# Altium schematic symbol library SchLib_ADH.SchLib: 241 symbols (part 1 of 9)
Pins are listed as number, name and electrical type; pins without a type are passive.

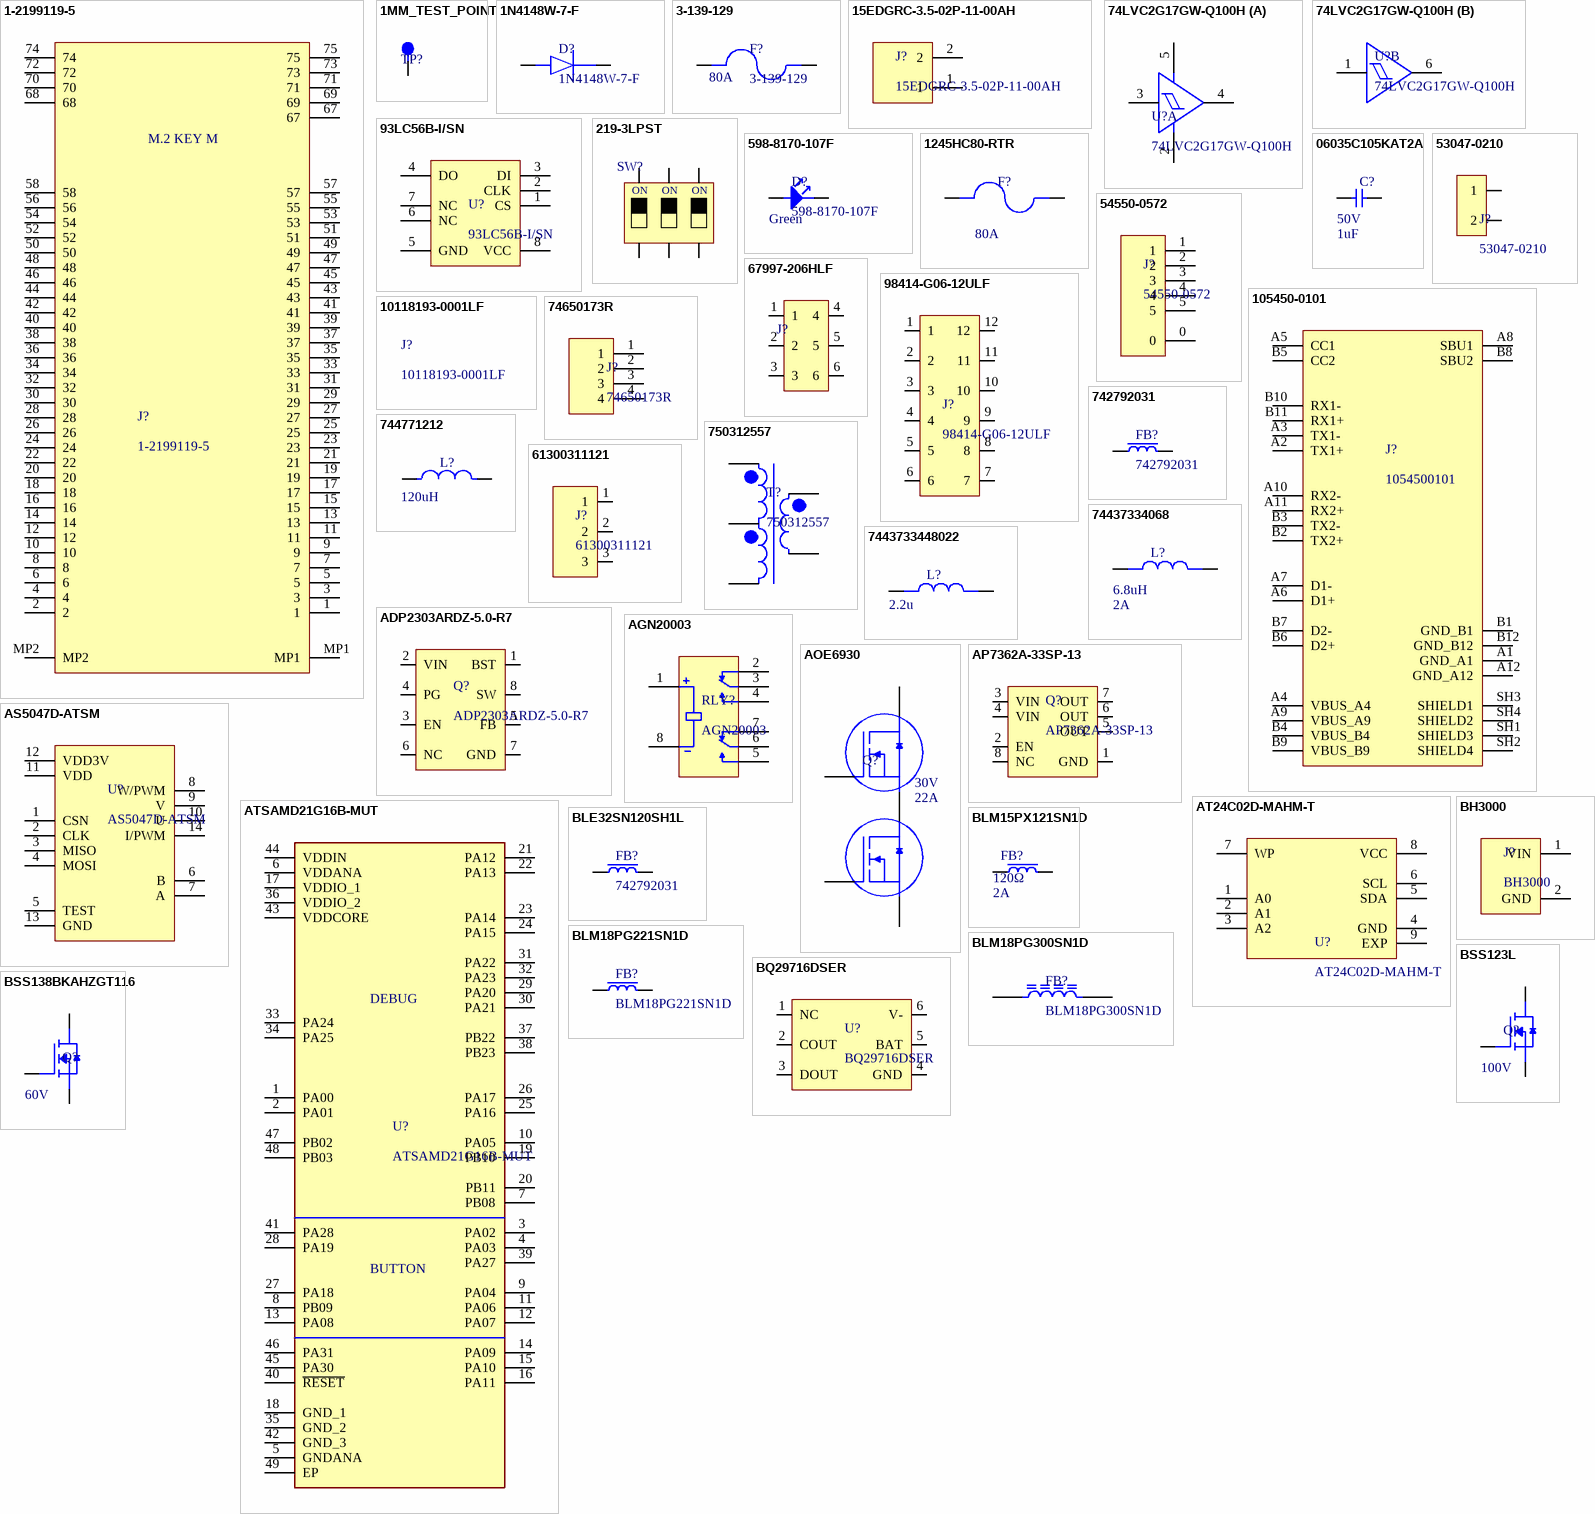
[diagram p0: symbols 1-2199119-5 to BSS138BKAHZGT116]

## 1-2199119-5
designator J?
Card Edge Connector, 67 Contact(s), 2 Row(s), Female, Right Angle, 0.019 inch Pitch, Surface Mount Terminal, Locking, Black Insulator, Socket; Manufacturer: TE Connectivity; Supplier 1: Digikey; Manufacturer Part Number: 1-2199119-5; RoHS: Yes; Category: Card Edge Connectors; Stock 1: 8014; Pricing 1: 1=1.59, 10=1.451, 25=1.4076, 50=1.3936, 100=1.2935, 250=1.272, 500=1.15768 (USD); Connector Type: CARD EDGE CONNECTOR; Reach SVHC Compliant: Yes; RoHS Compliant: Yes; ComponentLink1URL: https://datasheet.ciiva.com:443/pdfs/VipMasterIC/IC/TYEL/TYEL-S-A0008646546/TYEL-S-A0008667243-1.pdf?src-supplier=IHS+Markit; ComponentLink1Description: https://datasheet.ciiva.com:443/pdfs/VipMasterIC/IC/TYEL/TYEL-S-A0008646546/TYEL-S-A0008667243-1.pdf?src-supplier=IHS+Markit; ComponentLink2URL: https://datasheet.ciiva.com/18495/eng-cd-2199119-c-c-2199119-c-18495963.pdf?src-supplier=Digikey; ComponentLink2Description: https://datasheet.ciiva.com/18495/eng-cd-2199119-c-c-2199119-c-18495963.pdf?src-supplier=Digikey; ComponentLink3URL: https://datasheet.ciiva.com/18495/eng-cd-2199119-c-c-2199119-c-18495964.pdf?src-supplier=Digikey; ComponentLink3Description: https://datasheet.ciiva.com/18495/eng-cd-2199119-c-c-2199119-c-18495964.pdf?src-supplier=Digikey; ComponentLink4URL: https://datasheet.ciiva.com/18495/eng-cd-2199119-c-c-2199119-c-18495965.pdf?src-supplier=Digikey; ComponentLink4Description: https://datasheet.ciiva.com/18495/eng-cd-2199119-c-c-2199119-c-18495965.pdf?src-supplier=Digikey; Supplier Part Number 1: A115902CT-ND
footprint 121991195
pins: 1, 2, 3, 4, 5, 6, 7, 8, 9, 10, 11, 12, 13, 14, 15, 16, 17, 18, 19, 20, 21, 22, 23, 24, 25, 26, 27, 28, 29, 30, 31, 32, 33, 34, 35, 36, 37, 38, 39, 40, 41, 42, 43, 44, 45, 46, 47, 48, 49, 50, 51, 52, 53, 54, 55, 56, 57, 58, 67, 68, 69, 70, 71, 72, 73, 74, 75, MP1, MP2
text: M.2 KEY M

## 1MM_TEST_POINT
designator TP?  (value not drawn)
1mm test point
footprint 1MM_TETS_POINT
pins: 1

## 1N4148W-7-F
designator D?
Small Signal Diode, Single, 100 V, 300 Ma, 1.25 V, 4 Ns, 2 A Rohs Compliant: Yes; Manufacturer: Diodes; Value: 2pF; Forward Current: 150mA; Max Reverse Current: 1uA; Recovery Time: 4ns; Average Rectified Current: 300mA; Max Repetitive Reverse Voltage (Vrrm): 100V; Max Forward Surge Current (Ifsm): 2A; Power Dissipation: 400mW; Forward Voltage: 1.25V; Polarity: Standard; Voltage Rating (DC): 75V; Supplier: Digi-Key; Supplier Part Number: 1N4148W-FDICT-ND; Manufacturer Part Number: 1N4148W-7-F; RoHS: Yes; Category: Rectifier Diodes; Stock: 458934; Pricing: 1=0,17, 10=0,119, 100=0,0644, 500=0,05062, 1000=0,03515 (USD); Mounting Technology: Surface Mount; Pins: 2; Weight: 0.000353oz; Min Operating Temperature: -65°C; Max Operating Temperature: 150°C; Package Quantity: 3000; Packaging: Tape and Reel; Reverse Recovery Time: 4ns; Max Reverse Voltage (DC): 100V; Series: -; Reverse Recovery Time-Max: 4ns; Max Surge Current: 2A; Peak Non-Repetitive Surge Current: 2A; Current Rating: 150mA; Output Current: 150mA; Power Rating: 400mW; Reverse Voltage: 100V; Voltage: 100V; Length: 2.85mm; Width: 1.7mm; Height: 1.25mm; Radiation Hardening: No; Reach SVHC Compliant: No; Lead Free: Lead Free; RoHS Compliant: Yes; ComponentLink1URL: https://datasheet.ciiva.com/1179/1915529-1179304.pdf?src-supplier=Element14; ComponentLink1Description: https://datasheet.ciiva.com/1179/1915529-1179304.pdf?src-supplier=Element14; ComponentLink2URL: https://datasheet.ciiva.com/22695/1915529-22695239.pdf?src-supplier=Element14; ComponentLink2Description: https://datasheet.ciiva.com/22695/1915529-22695239.pdf?src-supplier=Element14; ComponentLink3URL: https://datasheet.ciiva.com/8300/ds30086-8300392.pdf?src-supplier=Avnet; ComponentLink3Description: https://datasheet.ciiva.com/8300/ds30086-8300392.pdf?src-supplier=Avnet; ComponentLink4URL: https://datasheet.ciiva.com/15219/getdatasheetpartid-110030-15219548.pdf?src-supplier=Verical; ComponentLink4Description: https://datasheet.ciiva.com/15219/getdatasheetpartid-110030-15219548.pdf?src-supplier=Verical; ComponentLink5URL: https://datasheet.ciiva.com/4435/ds30086-4435128.pdf?src-supplier=Mouser; ComponentLink5Description: https://datasheet.ciiva.com/4435/ds30086-4435128.pdf?src-supplier=Mouser; ComponentLink6URL: https://datasheet.ciiva.com/8303/ds30086-8303197.pdf?src-supplier=Avnet; ComponentLink6Description: https://datasheet.ciiva.com/8303/ds30086-8303197.pdf?src-supplier=Avnet; ComponentLink7URL: https://datasheet.ciiva.com/911/ds30086-911735.pdf?src-supplier=Digi-Key; ComponentLink7Description: https://datasheet.ciiva.com/911/ds30086-911735.pdf?src-supplier=Digi-Key; ComponentLink8URL: https://datasheet.ciiva.com/911/ds30086-911736.pdf?src-supplier=Digi-Key; ComponentLink8Description: https://datasheet.ciiva.com/911/ds30086-911736.pdf?src-supplier=Digi-Key; ComponentLink9URL: https://datasheet.ciiva.com/911/ds30086-911734.pdf?src-supplier=Digi-Key; ComponentLink9Description: https://datasheet.ciiva.com/911/ds30086-911734.pdf?src-supplier=Digi-Key
footprint SOD-123F (SMD)
pins: 1, 2

## 3-139-129
designator F?  Current Rating: 80A
Fuse, Fast-Acting, SMD, High-Current, 80V DC, 80A, Reel Pkg, UHP Series | Schurter 3-139-129; Supplier: Digikey; Supplier Part Number: 486-3-139-129CT-ND; Manufacturer: Schurter; Manufacturer Part Number: 3-139-129; RoHS: No; Category: Fuses; Stock: 460; Pricing: 1=1,19, 5=1,152, 10=1,078, 50=0,892, 100=0,7434, 250=0,72476 (USD)
footprint 3-139-129
pins: 1, 2

## 15EDGRC-3.5-02P-11-00AH
designator J?
TERM.BLK.3.50MM 2P 90C MALE GRAY CLOSED; Manufacturer: DEGSON; Supplier: Ozdisan; Part Number: 15EDGRC-3.5-02P-11-00AH
footprint 15EDGRC3502P1300AH
pins: 1, 2

## 74LVC2G17GW-Q100H
designator U?
Buffer, LVC/LCX/Z Series, 2-Func, 1-Input, CMOS, PDSO6; Manufacturer: Nexperia; Package Body Material: Plastic; Channels: 2; Number of Inputs: 1; Propagation Delay (tpd): 13.1ns; Max Supply Voltage: 5.5V; Min Supply Voltage: 1.65V; Nominal Supply Voltage: 3.3V; Supplier 1: Digikey; Manufacturer Part Number: 74LVC2G17GW-Q100H; RoHS: Yes; Category: Logic Gates; Stock 1: 8226; Pricing 1: 1=0.15, 10=0.095, 25=0.0828, 100=0.069, 250=0.0624, 500=0.0585 (USD); Case/Package: TSSOP; Pins: 6; Package Shape: Rectangular; Terminal Finish: Tin; Min Operating Temperature: -40°C; Max Operating Temperature: 125°C; JESD-609 Code: e3; JESD-30 Code: R-PDSO-G6; Logic Type: BUFFER; Package Style: SMALL OUTLINE, THIN PROFILE, SHRINK PITCHMeter; Surface Mount: Yes; Technology: CMOS; Terminal Form: Gull Wing; Terminal Position: DUAL; Length: 2mm; Width: 1.25mm; Height - Seated (Max): 1.1mm; Terminal Pitch: 0.65mm; Temperature Grade: AUTOMOTIVE; Reach SVHC Compliant: Yes; RoHS Compliant: Yes; ComponentLink1URL: https://datasheet.ciiva.com:443/pdfs/VipMasterIC/IC/PHGL/PHGLS27958/PHGLS27958-1.pdf?src-supplier=IHS+Markit; ComponentLink1Description: https://datasheet.ciiva.com:443/pdfs/VipMasterIC/IC/PHGL/PHGLS27958/PHGLS27958-1.pdf?src-supplier=IHS+Markit; ComponentLink2URL: https://www.mouser.com/ds/2/302/74LVC2G17_Q100-1151333.pdf?src-supplier=Mouser; ComponentLink2Description: https://www.mouser.com/ds/2/302/74LVC2G17_Q100-1151333.pdf?src-supplier=Mouser; ComponentLink3URL: https://assets.nexperia.com/documents/data-sheet/74LVC2G17_Q100.pdf?src-supplier=Digikey; ComponentLink3Description: https://assets.nexperia.com/documents/data-sheet/74LVC2G17_Q100.pdf?src-supplier=Digikey; Supplier Part Number 1: 1727-7364-1-ND
footprint SOT65P210X110-6N
part A pins: 2, 3, 4, 5
part B pins: 1, 6

## 93LC56B-I/SN
designator U?
Microwire Serial EEPROM Family, 2.5Vto 5.5V' 2 MHz, -40°Cto 125°C, SOIC-8, RoHS; Manufacturer: Microchip; Manufacturer Lifecycle Status: REL; Density: 2kb; Frequency: 2MHz; Max Supply Voltage: 5.5V; Memory Size: 250B; Min Supply Voltage: 2.5V; Nominal Supply Current: 2mA; Supplier: Farnell; Supplier Part Number: 9758259; Manufacturer Part Number: 93LC56B-I/SN; RoHS: Compliant; Category: EEPROM; Stock: 4717; Pricing: 1=0,292, 25=0,284, 100=0,277, 250=0,269 (EUR); Projected EOL Date: 2034-05-16; Ambient Temperature Range High: 125°C; Case/Package: SOIC; Contact Plating: Tin; Country of Assembly: Thailand; Country of Fabrication: United States of America; Country of Origin: Thailand; Export Control Classification Number (ECCN) Code: EAR99; Height: 1.75mm; Harmonized Tariff Schedule (HTS) Code: 8542.32.0051; Interface: Serial; Introduction Date: 2002-05-16; Lead Free: Lead Free; Length: 4.9mm; Lifecycle Status: Production; Clock Frequency: 2MHz; Max Operating Temperature: 85°C; Memory Format: EEPROM; Min Operating Temperature: -40°C; Mounting Technology: Surface Mount; Pins: 8; Operating Supply Voltage: 2.5V; Packaging: Bulk; Radiation Hardening: No; REACH SVHC: No; Schedule B: 8542320050, 8542320050|8542320050, 8542320050|8542320050|8542320050, 8542320050|8542320050|8542320050|8542320050; Width: 3.9mm; ComponentLink1URL: https://sigma.octopart.com:443/138896773/technical_drawing/Microchip-93LC56B-I-SN.pdf?src-supplier=Upverter; ComponentLink1Description: https://sigma.octopart.com:443/138896773/technical_drawing/Microchip-93LC56B-I-SN.pdf?src-supplier=Upverter; ComponentLink2URL: https://datasheet.octopart.com:443/93LC56B-I-SN-Microchip-datasheet-8329049.pdf?src-supplier=Upverter; ComponentLink2Description: https://datasheet.octopart.com:443/93LC56B-I-SN-Microchip-datasheet-8329049.pdf?src-supplier=Upverter; ComponentLink3URL: https://datasheet.octopart.com:443/93LC56B-I/SN-Microchip-datasheet-11051705.pdf?src-supplier=Augswan; ComponentLink3Description: https://datasheet.octopart.com:443/93LC56B-I/SN-Microchip-datasheet-11051705.pdf?src-supplier=Augswan; ComponentLink4URL: https://datasheet.octopart.com:443/93LC56B-I-SN-Microchip-datasheet-175858343.pdf?src-supplier=Microchip; ComponentLink4Description: https://datasheet.octopart.com:443/93LC56B-I-SN-Microchip-datasheet-175858343.pdf?src-supplier=Microchip; ComponentLink5URL: https://datasheet.octopart.com:443/93LC56B-I/SN-Microchip-datasheet-1282.pdf?src-supplier=TME; ComponentLink5Description: https://datasheet.octopart.com:443/93LC56B-I/SN-Microchip-datasheet-1282.pdf?src-supplier=TME; ComponentLink6URL: https://datasheet.octopart.com:443/93LC56B-I-SN-Microchip-datasheet-17371814.pdf?src-supplier=Microchip+SCT; ComponentLink6Description: https://datasheet.octopart.com:443/93LC56B-I-SN-Microchip-datasheet-17371814.pdf?src-supplier=Microchip+SCT; ComponentLink7URL: https://datasheet.octopart.com:443/93LC56B-I-SN-Microchip-datasheet-128589246.pdf?src-supplier=X-ON; ComponentLink7Description: https://datasheet.octopart.com:443/93LC56B-I-SN-Microchip-datasheet-128589246.pdf?src-supplier=X-ON; ComponentLink8URL: https://datasheet.octopart.com:443/93LC56B-I-SN-Microchip-datasheet-14358349.pdf?src-supplier=Farnell; ComponentLink8Description: https://datasheet.octopart.com:443/93LC56B-I-SN-Microchip-datasheet-14358349.pdf?src-supplier=Farnell; ComponentLink9URL: https://datasheet.octopart.com:443/93LC56B-I/SN.-Microchip-datasheet-656095.pdf?src-supplier=Farnell; ComponentLink9Description: https://datasheet.octopart.com:443/93LC56B-I/SN.-Microchip-datasheet-656095.pdf?src-supplier=Farnell; ComponentLink10URL: https://datasheet.octopart.com:443/93LC56B-I/SN-Microchip-datasheet-9625709.pdf?src-supplier=RS+(Formerly+Allied+Electronics); ComponentLink10Description: https://datasheet.octopart.com:443/93LC56B-I/SN-Microchip-datasheet-9625709.pdf?src-supplier=RS+(Formerly+Allied+Electronics); ComponentLink11URL: https://datasheet.octopart.com:443/93LC56B-I/SN-Microchip-datasheet-532015.pdf?src-supplier=element14; ComponentLink11Description: https://datasheet.octopart.com:443/93LC56B-I/SN-Microchip-datasheet-532015.pdf?src-supplier=element14; ComponentLink12URL: https://datasheet.octopart.com:443/93LC56B-I/SN-Microchip-datasheet-14152761.pdf?src-supplier=iiiC; ComponentLink12Description: https://datasheet.octopart.com:443/93LC56B-I/SN-Microchip-datasheet-14152761.pdf?src-supplier=iiiC; ComponentLink13URL: http://sigma.octopart.com:80/188449173/materials_sheet/Microchip-93LC56B-I-SN.pdf?src-supplier=Compliance+Statements; ComponentLink13Description: http://sigma.octopart.com:80/188449173/materials_sheet/Microchip-93LC56B-I-SN.pdf?src-supplier=Compliance+Statements; ComponentLink14URL: http://sigma.octopart.com:80/190563418/materials_sheet/Microchip-93LC56B-I-SN.pdf?src-supplier=Compliance+Statements; ComponentLink14Description: http://sigma.octopart.com:80/190563418/materials_sheet/Microchip-93LC56B-I-SN.pdf?src-supplier=Compliance+Statements; ComponentLink15URL: http://sigma.octopart.com:80/rohs_statement/Microchip-company-71.pdf?src-supplier=Compliance+Statements; ComponentLink15Description: http://sigma.octopart.com:80/rohs_statement/Microchip-company-71.pdf?src-supplier=Compliance+Statements; ComponentLink16URL: http://sigma.octopart.com:80/reach_statement/Microchip-company-70.pdf?src-supplier=Compliance+Statements; ComponentLink16Description: http://sigma.octopart.com:80/reach_statement/Microchip-company-70.pdf?src-supplier=Compliance+Statements; ComponentLink17URL: http://sigma.octopart.com:80/conflict_mineral_statement/Microchip-company-69.pdf?src-supplier=Compliance+Statements; ComponentLink17Description: http://sigma.octopart.com:80/conflict_mineral_statement/Microchip-company-69.pdf?src-supplier=Compliance+Statements; ComponentLink18URL: http://sigma.octopart.com:80/conflict_mineral_statement/Microchip-company-68.pdf?src-supplier=Compliance+Statements; ComponentLink18Description: http://sigma.octopart.com:80/conflict_mineral_statement/Microchip-company-68.pdf?src-supplier=Compliance+Statements
footprint SOIC127P599X175-8N
pins: 1 CS, 2 CLK, 3 DI, 4 DO, 5 GND, 6 NC, 7 NC, 8 VCC

## 219-3LPST
designator SW?  (value not drawn)
Switch; Manufacturer_Name: CTS; Datasheet Link: https://www.digikey.ph/en/products/detail/cts-electrocomponents/219-3LPST/223166?msockid=39f1ec84d77b6f4428b7f904d6676eed; Height: 3.85mm; Manufacturer_Part_Number: 219-3LPST; Mouser Part Number: 774-2193LPST; Mouser Price/Stock: https://www.mouser.co.uk/ProductDetail/CTS-Electronic-Components/219-3LPST?qs=qNzHFtQhdJ%252BCQoB5yfrP7Q%3D%3D; Arrow Part Number: 219-3LPST; Arrow Price/Stock: https://www.arrow.com/en/products/219-3lpst/cts
footprint 2193LPST
pins: 1, 2, 3, 4, 5, 6
text: ON

## 598-8170-107F
designator D?  Color: Green
LED Low-Power Uni-Color Green 2-Pin Chip 0805(2012Metric) T/R; Manufacturer: Dialight; Lens Color: Colorless,Clear; Lens Style: Flat,Rectangular,Diffused,Colorless,Clear,WATER CLEAR; Forward Voltage: 2.4V; Viewing Angle: 140°; Luminous Intensity: 20mcd; Wavelength: 570nm; Forward Current: 20mA; Number of Elements: 1; Power Dissipation: 60mW; Reverse Voltage: 5V; Lens Transparency: Clear; Lens Size: 1.25mm; Supplier: Digi-Key; Supplier Part Number: 350-2044-1-ND; Manufacturer Part Number: 598-8170-107F; RoHS: Yes; Category: LEDs; Stock: 668441; Pricing: 1=0,29, 10=0,23, 100=0,1033, 500=0,09332, 1000=0,07666, 2000=0,06666 (USD); Mounting Technology: Surface Mount; Case/Package: 0805; Pins: 2; Case Code (Metric): 2012; Case Code (Imperial): 0805; Min Operating Temperature: -30°C; Max Operating Temperature: 85°C; Package Quantity: 3000; Packaging: Tape and Reel; Illumination Color: Green; Test Current: 20mA; Dominant Wavelength: 570nm; Number of LEDs: 1; Series: 598; Length: 2mm; Width: 1.25mm; Height: 0.8mm; Depth: 1.25mm; Radiation Hardening: No; Reach SVHC Compliant: No; Lead Free: Lead Free; RoHS Compliant: Yes; ComponentLink1URL: https://datasheet.ciiva.com/11774/0900766b80ae2984-11774107.pdf?src-supplier=Rs; ComponentLink1Description: https://datasheet.ciiva.com/11774/0900766b80ae2984-11774107.pdf?src-supplier=Rs; ComponentLink2URL: https://datasheet.ciiva.com/15117/getdatasheetpartid-104614-15117453.pdf?src-supplier=Verical; ComponentLink2Description: https://datasheet.ciiva.com/15117/getdatasheetpartid-104614-15117453.pdf?src-supplier=Verical; ComponentLink3URL: https://datasheet.ciiva.com/1243/25662-1243902.pdf?src-supplier=Element14; ComponentLink3Description: https://datasheet.ciiva.com/1243/25662-1243902.pdf?src-supplier=Element14; ComponentLink4URL: https://datasheet.ciiva.com/1243/25662-1243901.pdf?src-supplier=Element14; ComponentLink4Description: https://datasheet.ciiva.com/1243/25662-1243901.pdf?src-supplier=Element14; ComponentLink5URL: https://datasheet.ciiva.com/22748/1484480-22748121.pdf?src-supplier=Element14; ComponentLink5Description: https://datasheet.ciiva.com/22748/1484480-22748121.pdf?src-supplier=Element14; ComponentLink6URL: https://datasheet.ciiva.com/2110/smt-selector-guide-2110052.pdf?src-supplier=Digi-Key; ComponentLink6Description: https://datasheet.ciiva.com/2110/smt-selector-guide-2110052.pdf?src-supplier=Digi-Key; ComponentLink7URL: https://datasheet.ciiva.com/2110/smt-selector-guide-2110051.pdf?src-supplier=Digi-Key; ComponentLink7Description: https://datasheet.ciiva.com/2110/smt-selector-guide-2110051.pdf?src-supplier=Digi-Key; ComponentLink8URL: https://datasheet.ciiva.com/2110/smt-selector-guide-2110053.pdf?src-supplier=Digi-Key; ComponentLink8Description: https://datasheet.ciiva.com/2110/smt-selector-guide-2110053.pdf?src-supplier=Digi-Key; ComponentLink9URL: https://datasheet.ciiva.com/15965/mdei5980805-a-w-15965496.pdf?src-supplier=Onlinecomponents.com; ComponentLink9Description: https://datasheet.ciiva.com/15965/mdei5980805-a-w-15965496.pdf?src-supplier=Onlinecomponents.com
footprint LED
pins: 1, 2

## 1245HC80-RTR
designator F?  Current Rating: 80A  (hidden comment: 1245HC80-RTR)
FUSE BRD MT 80A 125VAC 72VDC SMD; Manufacturer: Eaton Bussmann; Supplier: Digikey; Supplier Part Number: 283-1245HC80-RTRCT-ND; Manufacturer Part Number: 1245HC80-RTR; RoHS: Yes; Category: Fuses; Stock: 11041; Pricing: 1=7,45, 5=7,184, 10=6,918, 50=5,3212, 100=4,523, 250=4,25696, 500=3,72484 (USD)
footprint 1245HC80RTR
pins: 1, 2

## 06035C105KAT2A
designator C?  value 1uF  Voltage Rating: 50V  (hidden comment: 06035C105KAT2A)
Multilayer Ceramic Capacitor, 1 uF, 50 V, ± 10%, X7R, 0603 [1608 Metric]; Manufacturer: Kyocera AVX; Material: 4241ConductorMaterial; Dielectric: 1511DielectricType; Supplier: Digikey; Supplier Part Number: 478-10073-1-ND; Manufacturer Part Number: 06035C105KAT2A; RoHS: Yes; Category: Ceramic Capacitors; Stock: 151526; Pricing: 1=0,53, 10=0,353, 50=0,281, 100=0,232, 500=0,18128, 1000=0,15409 (USD); Mounting Technology: Surface Mount; Case/Package: 345Case; Min Operating Temperature: -55°C; Max Operating Temperature: 125°C; Series: -; Packaging: Cut Tape; Tolerance: 10%; Voltage Rating (DC): 50V; Height: 940um; RoHS Compliant: Yes; ComponentLink1URL: http://datasheet.octopart.com/06035C105KAT2A-KYOCERA-AVX-datasheet-156093842.pdf?src-supplier=Newark; ComponentLink1Description: http://datasheet.octopart.com/06035C105KAT2A-KYOCERA-AVX-datasheet-156093842.pdf?src-supplier=Newark; ComponentLink2URL: https://datasheet.octopart.com/06035C105KAT2A-KYOCERA-AVX-datasheet-156093841.pdf?src-supplier=Future+Electronics; ComponentLink2Description: https://datasheet.octopart.com/06035C105KAT2A-KYOCERA-AVX-datasheet-156093841.pdf?src-supplier=Future+Electronics; ComponentLink3URL: http://catalogs.avx.com/SurfaceMount.pdf?src-supplier=Digikey; ComponentLink3Description: http://catalogs.avx.com/SurfaceMount.pdf?src-supplier=Digikey; ComponentLink4URL: http://datasheets.avx.com/X7RDielectric.pdf?src-supplier=Digikey; ComponentLink4Description: http://datasheets.avx.com/X7RDielectric.pdf?src-supplier=Digikey; ComponentLink5URL: http://datasheet.octopart.com/06035C105KAT2A-KYOCERA-AVX-datasheet-156093842.pdf?src-supplier=Mouser; ComponentLink5Description: http://datasheet.octopart.com/06035C105KAT2A-KYOCERA-AVX-datasheet-156093842.pdf?src-supplier=Mouser; ComponentLink6URL: https://datasheet.octopart.com/06035C105KAT2A-KYOCERA-AVX-datasheet-156093842.pdf?src-supplier=TME; ComponentLink6Description: https://datasheet.octopart.com/06035C105KAT2A-KYOCERA-AVX-datasheet-156093842.pdf?src-supplier=TME; ComponentLink7URL: http://datasheet.octopart.com/06035C105KAT2A-KYOCERA-AVX-datasheet-156093842.pdf?src-supplier=TTI; ComponentLink7Description: http://datasheet.octopart.com/06035C105KAT2A-KYOCERA-AVX-datasheet-156093842.pdf?src-supplier=TTI
footprint CAPC1608X94N
pins: 1, 2 12

## 53047-0210
designator J?
PicoBlade 53047 2-Position Shrouded Header Male Blade 0.049" (1.25mm) Natural Through Hole; Manufacturer: Molex; Body Plating: Tin; Plating: 154ConductorMaterial; Contact Resistance: 20mR; Current Rating: 1A; Voltage Rating: 125V; Number of Poles: 2; Max Current Rating: 3A; Insulation Resistance: 100MR; Glow Wire Compliant: Non-compliant; Supplier: Digikey; Supplier Part Number: WM1731-ND; Manufacturer Part Number: 53047-0210; RoHS: Yes; Category: Headers and Wire Housings; Stock: 49233; Pricing: 1=0,23, 10=0,185, 80=0,13263, 945=0,10381, 5000=0,09227, 10000=0,08362 (USD); Mounting Technology: Through Hole; Contact Plating: Tin,Gold; Contact Material: Bronze,Brass,Tin; Housing Color: Black; Color: Natural; Housing Material: Polyamide; Min Operating Temperature: -40°C; Max Operating Temperature: 85°C; Number of Rows: 1; Voltage Rating (AC): 125V; Packaging: Tray; Package Quantity: 5000; Number of Positions: 2; Termination: Solder; Number of Contacts: 2; Working Voltage: 125V; Orientation: Vertical; Gender: Male; Number of Circuits: 2; Voltage Rating (DC): 125V; Series: PicoBlade; Length: 71.1mm; Height: 11.43mm; Lead Pitch: 1.25mm; Pitch: 1.25mm; Depth: 6.6mm; Radiation Hardening: No; Lead Free: Lead Free; Flammability Rating: UL94 V-0; RoHS Compliant: Yes; Reach SVHC Compliant: Unknown
footprint MOLEX_53047-0210
pins: 1, 2

## 54550-0572
designator J?
Cross Referenced to MOLEX - Part MOL0545500572; Supplier 1: Digikey; Manufacturer: Molex; Manufacturer Part Number: 54550-0572; RoHS: No; Category: FFC / FPC; Stock 1: 20035; Pricing 1: 1=2.1, 10=1.79, 100=1.479, 1000=1.16766 (USD); Supplier Part Number 1: 900-0545500572CT-ND
footprint 0545500572
pins: 0, 1, 2, 3, 4, 5

## 67997-206HLF
designator J?  (value not drawn)
Conn Unshrouded Header HDR 6 POS 2.54mm Solder ST Top Entry Thru-Hole BergStik® Bulk; Manufacturer: Amphenol ICC / FCI; Supplier 1: Digikey; Manufacturer Part Number: 67997-206HLF; RoHS: No; Category: Headers and Wire Housings; Stock 1: 40462; Pricing 1: 1=0.52, 10=0.451, 100=0.3721, 500=0.3236, 1000=0.26697, 5000=0.23461, 10000=0.21843 (USD); ComponentLink1URL: http://uk.rs-online.com/webdocs/1450/0900766b81450b9f.pdf?src-supplier=Rs; ComponentLink1Description: http://uk.rs-online.com/webdocs/1450/0900766b81450b9f.pdf?src-supplier=Rs; ComponentLink2URL: http://components.arrow.com/part/dataview/41913726S7403011N8314?src-supplier=Arrow+Electronics; ComponentLink2Description: http://components.arrow.com/part/dataview/41913726S7403011N8314?src-supplier=Arrow+Electronics; ComponentLink3URL: http://portal.fciconnect.com/Comergent/adirect/fci?cmd=catCustomerDrawing&productName=67997-206HLF&src-supplier=Mouser; ComponentLink3Description: http://portal.fciconnect.com/Comergent/adirect/fci?cmd=catCustomerDrawing&productName=67997-206HLF&src-supplier=Mouser; ComponentLink4URL: http://portal.fciconnect.com/Comergent/fci/drawing/67996.pdf?src-supplier=Avnet; ComponentLink4Description: http://portal.fciconnect.com/Comergent/fci/drawing/67996.pdf?src-supplier=Avnet; ComponentLink5URL: https://datasheet.octopart.com/67997-206HLF-Amphenol-Communications-Solutions-datasheet-10288749.pdf?src-supplier=Newark; ComponentLink5Description: https://datasheet.octopart.com/67997-206HLF-Amphenol-Communications-Solutions-datasheet-10288749.pdf?src-supplier=Newark; ComponentLink6URL: https://datasheet.octopart.com/67997-206HLF-Areva-datasheet-15888151.pdf?src-supplier=Element14; ComponentLink6Description: https://datasheet.octopart.com/67997-206HLF-Areva-datasheet-15888151.pdf?src-supplier=Element14; ComponentLink7URL: https://www.alliedelec.com/m/d/513ec3cc6ba1d1ea2d72c003449a9fb2.pdf?src-supplier=Allied+Electronics; ComponentLink7Description: https://www.alliedelec.com/m/d/513ec3cc6ba1d1ea2d72c003449a9fb2.pdf?src-supplier=Allied+Electronics; ComponentLink8URL: https://cdn.amphenol-icc.com/media/wysiwyg/files/drawing/67996.pdf?src-supplier=Digikey; ComponentLink8Description: https://cdn.amphenol-icc.com/media/wysiwyg/files/drawing/67996.pdf?src-supplier=Digikey; ComponentLink9URL: https://datasheet.octopart.com/67997-206HLF-Amphenol-Communications-Solutions-datasheet-36854132.pdf?src-supplier=Electro+Sonic; ComponentLink9Description: https://datasheet.octopart.com/67997-206HLF-Amphenol-Communications-Solutions-datasheet-36854132.pdf?src-supplier=Electro+Sonic; Supplier Part Number 1: 609-3234-ND
footprint FRAMATOME_67997-206HLF
pins: 1, 2, 3, 4, 5, 6

## 98414-G06-12ULF
designator J?
Conn Shrouded Header (4 Sides) HDR 12 POS 2mm Solder ST Top Entry Thru-Hole Minitek® Tube; Manufacturer: Amphenol ICC / FCI; Supplier: Digi-Key; Supplier Part Number: 609-3106-ND; Manufacturer Part Number: 98414-G06-12ULF; RoHS: No; Category: Connectors; Stock: 2677; Pricing: 1=1,69, 10=1,468, 100=1,3118, 500=1,0932, 1000=0,93703, 5000=0,83083, 10000=0,81209 (USD); ComponentLink1URL: https://www.distrelec.biz/Web/Downloads/at/_e/dmMinitek-98414-G06_dat_e.pdf?mime=application%2Fpdf&src-supplier=Distrelec; ComponentLink1Description: https://www.distrelec.biz/Web/Downloads/at/_e/dmMinitek-98414-G06_dat_e.pdf?mime=application%2Fpdf&src-supplier=Distrelec; ComponentLink2URL: http://portal.fciconnect.com/Comergent/adirect/fci?cmd=catCustomerDrawing&productName=98414-G06-12ULF&src-supplier=Mouser; ComponentLink2Description: http://portal.fciconnect.com/Comergent/adirect/fci?cmd=catCustomerDrawing&productName=98414-G06-12ULF&src-supplier=Mouser; ComponentLink3URL: http://components.arrow.com/part/dataview/41998130S9159840N8314?src-supplier=Arrow+Electronics; ComponentLink3Description: http://components.arrow.com/part/dataview/41998130S9159840N8314?src-supplier=Arrow+Electronics; ComponentLink4URL: http://portal.fciconnect.com/Comergent/fci/drawing/98414.pdf?src-supplier=Avnet; ComponentLink4Description: http://portal.fciconnect.com/Comergent/fci/drawing/98414.pdf?src-supplier=Avnet; ComponentLink5URL: https://cdn.amphenol-icc.com/media/wysiwyg/files/drawing/98414.pdf?src-supplier=Digi-Key; ComponentLink5Description: https://cdn.amphenol-icc.com/media/wysiwyg/files/drawing/98414.pdf?src-supplier=Digi-Key
footprint AMPHENOL_98414-G06-12ULF
pins: 1, 2, 3, 4, 5, 6, 7, 8, 9, 10, 11, 12

## 105450-0101
designator J?, comment 1054500101
USB Connector, 24 Contact(s), Female, Right Angle, Surface Mount Terminal, Receptacle; Manufacturer: Molex; Manufacturer Part Number: 105450-0101; Plating: 157ConductorMaterial; Number of Contacts: 24; Number of Ports: 1; USB Standard: USB 3.1; Mating Cycles: 10000; Shielding: Shielded; Number of Circuits: 24NUMBER; Voltage Rating: 30V; Pitch: 0.5mm; Supplier: Digi-Key; Supplier Part Number: WM12856CT-ND; RoHS: Yes; Category: USB Connectors; Stock: 54929; Pricing: 1=2,68, 10=2,283, 100=1,886 (USD); Mounting Technology: Surface Mount,Horizontal,Through Hole; Case/Package: 0101; Pins: 24; Contact Material: Copper Alloy; Contact Plating: Gold; Housing Material: Thermoplastic; Insulation Color: Black; Min Operating Temperature: -30°C; Max Operating Temperature: 85°C; Packaging: Tape and Reel; Connector Type: USB; Gender: Receptacle; Orientation: Right Angle; Termination: Solder; Features: Shielded; Series: -; Number of Rows: 2NUMBER; Length: 8.94mm; Height: 3.44mm; Flammability Rating: UL94 V-0; RoHS Compliant: Yes; Reach SVHC Compliant: Unknown; ComponentLink1URL: http://www.farnell.com/datasheets/2801634.pdf?src-supplier=Farnell; ComponentLink1Description: http://www.farnell.com/datasheets/2801634.pdf?src-supplier=Farnell; ComponentLink2URL: http://www.farnell.com/datasheets/2801634.pdf?src-supplier=Newark; ComponentLink2Description: http://www.farnell.com/datasheets/2801634.pdf?src-supplier=Newark; ComponentLink3URL: http://www.literature.molex.com/SQLImages/kelmscott/Molex/PDF_Images/987651-4081.PDF?src-supplier=Avnet; ComponentLink3Description: http://www.literature.molex.com/SQLImages/kelmscott/Molex/PDF_Images/987651-4081.PDF?src-supplier=Avnet; ComponentLink4URL: http://www.farnell.com/datasheets/2015275.pdf?src-supplier=Element14; ComponentLink4Description: http://www.farnell.com/datasheets/2015275.pdf?src-supplier=Element14; ComponentLink5URL: http://www.farnell.com/datasheets/2801634.pdf?src-supplier=Element14; ComponentLink5Description: http://www.farnell.com/datasheets/2801634.pdf?src-supplier=Element14; ComponentLink6URL: http://www.farnell.com/datasheets/2672741.pdf?src-supplier=Newark; ComponentLink6Description: http://www.farnell.com/datasheets/2672741.pdf?src-supplier=Newark; ComponentLink7URL: https://www.molex.com/pdm_docs/sd/1054500101_sd.pdf?src-supplier=Digi-Key; ComponentLink7Description: https://www.molex.com/pdm_docs/sd/1054500101_sd.pdf?src-supplier=Digi-Key; ComponentLink8URL: https://www.molex.com/pdm_docs/ps/PS-105448-001.pdf?src-supplier=Digi-Key; ComponentLink8Description: https://www.molex.com/pdm_docs/ps/PS-105448-001.pdf?src-supplier=Digi-Key; ComponentLink9URL: https://datasheet.octopart.com/1054500101-Molex-datasheet-168215564.pdf?src-supplier=TME; ComponentLink9Description: https://datasheet.octopart.com/1054500101-Molex-datasheet-168215564.pdf?src-supplier=TME
footprint MOLEX_1054500101
pins: A1 GND_A1, A2 TX1+, A3 TX1-, A4 VBUS_A4, A5 CC1, A6 D1+, A7 D1-, A8 SBU1, A9 VBUS_A9, A10 RX2-, A11 RX2+, A12 GND_A12, B1 GND_B1, B2 TX2+, B3 TX2-, B4 VBUS_B4, B5 CC2, B6 D2+, B7 D2-, B8 SBU2, B9 VBUS_B9, B10 RX1-, B11 RX1+, B12 GND_B12, SH1 SHIELD3, SH2 SHIELD4, SH3 SHIELD1, SH4 SHIELD2

## 10118193-0001LF
designator J?
FCI Right Angle Surface Mount Mount Female USB Connector; 100 V ac; 1.8A; Manufacturer: Amphenol ICC / FCI; Connector Type: USB,Receptacle; Number of Contacts: 5; Insulation Resistance: 1GR; Number of Ports: 1; Max Voltage Rating (AC): 100V; Pitch: 0.65mm; Supplier: Digi-Key; Supplier Part Number: 609-4616-1-ND; Manufacturer Part Number: 10118193-0001LF; RoHS: No; Category: Uncategorized; Stock: 246195; Pricing: 1=0,46, 10=0,404, 25=0,3696, 50=0,3478, 100=0,3334, 250=0,30436, 500=0,28988 (USD); Mounting Technology: Surface Mount,Horizontal; Pins: 5; Color: Black; Contact Material: Copper Alloy; Contact Plating: Gold; Housing Material: Polymer; Min Operating Temperature: -55°C; Max Operating Temperature: 85°C; Gender: Female; Orientation: Right Angle; Termination: Solder; Features: Shielded; Series: -; Packaging: Tape and Reel; Current Rating: 1.8A; Package Quantity: 1200; Voltage Rating: 100V; Length: 7.86mm; Depth: 5.67mm; Radiation Hardening: No; Flammability Rating: UL94 V-0; ComponentLink1URL: http://uk.rs-online.com/webdocs/1450/0900766b814507f1.pdf?src-supplier=Rs; ComponentLink1Description: http://uk.rs-online.com/webdocs/1450/0900766b814507f1.pdf?src-supplier=Rs; ComponentLink2URL: https://cdn.amphenol-icc.com/media/wysiwyg/files/documentation/datasheet/inputoutput/io_usb_micro.pdf?src-supplier=Arrow+Electronics; ComponentLink2Description: https://cdn.amphenol-icc.com/media/wysiwyg/files/documentation/datasheet/inputoutput/io_usb_micro.pdf?src-supplier=Arrow+Electronics; ComponentLink3URL: https://cdn.amphenol-icc.com/media/wysiwyg/files/documentation/datasheet/inputoutput/io_usb_micro.pdf?src-supplier=Onlinecomponents.com; ComponentLink3Description: https://cdn.amphenol-icc.com/media/wysiwyg/files/documentation/datasheet/inputoutput/io_usb_micro.pdf?src-supplier=Onlinecomponents.com; ComponentLink4URL: https://cdn.amphenol-icc.com/media/wysiwyg/files/documentation/datasheet/inputoutput/io_usb_micro.pdf?src-supplier=Verical; ComponentLink4Description: https://cdn.amphenol-icc.com/media/wysiwyg/files/documentation/datasheet/inputoutput/io_usb_micro.pdf?src-supplier=Verical; ComponentLink5URL: https://cdn.amphenol-icc.com/media/wysiwyg/files/documentation/datasheet/inputoutput/io_usb_micro.pdf?src-supplier=Allied+Electronics; ComponentLink5Description: https://cdn.amphenol-icc.com/media/wysiwyg/files/documentation/datasheet/inputoutput/io_usb_micro.pdf?src-supplier=Allied+Electronics; ComponentLink6URL: https://datasheet.octopart.com/10118193-0001LF-Amphenol-Communications-Solutions-datasheet-96019471.pdf?src-supplier=Element14; ComponentLink6Description: https://datasheet.octopart.com/10118193-0001LF-Amphenol-Communications-Solutions-datasheet-96019471.pdf?src-supplier=Element14; ComponentLink7URL: https://cdn.amphenol-icc.com/media/wysiwyg/files/documentation/datasheet/inputoutput/io_usb_micro.pdf?src-supplier=Avnet; ComponentLink7Description: https://cdn.amphenol-icc.com/media/wysiwyg/files/documentation/datasheet/inputoutput/io_usb_micro.pdf?src-supplier=Avnet; ComponentLink8URL: https://cdn.amphenol-icc.com/media/wysiwyg/files/documentation/datasheet/inputoutput/io_usb_micro.pdf?src-supplier=Rs; ComponentLink8Description: https://cdn.amphenol-icc.com/media/wysiwyg/files/documentation/datasheet/inputoutput/io_usb_micro.pdf?src-supplier=Rs; ComponentLink9URL: https://cdn.amphenol-icc.com/media/wysiwyg/files/documentation/datasheet/inputoutput/io_usb_micro.pdf?src-supplier=Mouser; ComponentLink9Description: https://cdn.amphenol-icc.com/media/wysiwyg/files/documentation/datasheet/inputoutput/io_usb_micro.pdf?src-supplier=Mouser; ComponentLink10URL: http://www.amphenol-icc.com/media/wysiwyg/files/drawing/10118193.pdf?src-supplier=Digi-Key; ComponentLink10Description: http://www.amphenol-icc.com/media/wysiwyg/files/drawing/10118193.pdf?src-supplier=Digi-Key; ComponentLink11URL: https://cdn.amphenol-icc.com/media/wysiwyg/files/documentation/datasheet/inputoutput/io_usb_micro.pdf?src-supplier=Digi-Key; ComponentLink11Description: https://cdn.amphenol-icc.com/media/wysiwyg/files/documentation/datasheet/inputoutput/io_usb_micro.pdf?src-supplier=Digi-Key; ComponentLink12URL: https://cdn.amphenol-icc.com/media/wysiwyg/files/documentation/datasheet/inputoutput/io_usb_micro.pdf?src-supplier=TTI; ComponentLink12Description: https://cdn.amphenol-icc.com/media/wysiwyg/files/documentation/datasheet/inputoutput/io_usb_micro.pdf?src-supplier=TTI; ComponentLink13URL: https://datasheet.octopart.com/10118193-0001LF-Amphenol-Communications-Solutions-datasheet-11792339.pdf?src-supplier=Electro+Sonic; ComponentLink13Description: https://datasheet.octopart.com/10118193-0001LF-Amphenol-Communications-Solutions-datasheet-11792339.pdf?src-supplier=Electro+Sonic; ComponentLink14URL: https://datasheet.octopart.com/10118193-0001LF-Amphenol-Communications-Solutions-datasheet-55953155.pdf?src-supplier=TME; ComponentLink14Description: https://datasheet.octopart.com/10118193-0001LF-Amphenol-Communications-Solutions-datasheet-55953155.pdf?src-supplier=TME; ComponentLink15URL: https://cdn.amphenol-icc.com/media/wysiwyg/files/documentation/datasheet/inputoutput/io_usb_micro.pdf?src-supplier=Heilind+Electronics; ComponentLink15Description: https://cdn.amphenol-icc.com/media/wysiwyg/files/documentation/datasheet/inputoutput/io_usb_micro.pdf?src-supplier=Heilind+Electronics

## 74650173R
designator J?
TERMINAL, BUSH THR , PCB, 6.6mm, M3, TH; Tab Size - Metric: -; Imperial: -; Terminal Material: Brass; Mounting Hole...; Manufacturer: Wurth Electronics; Current Rating: 50A; Supplier: Digikey; Supplier Part Number: 732-74650173RCT-ND; Manufacturer Part Number: 74650173R; RoHS: Yes; Category: Terminals; Stock: 3440; Pricing: 1=4,51, 10=3,764, 50=3,305, 100=3,007 (USD); Mounting Technology: Through Hole; Pins: 4; Contact Plating: Tin; Contact Material: Brass; Termination: Power; Series: REDCUBE WP-THRBU; Thread Size: M3; RoHS Compliant: Yes; ComponentLink1URL: http://katalog.we-online.de/em/datasheet/74650173R.pdf?src-supplier=Digikey; ComponentLink1Description: http://katalog.we-online.de/em/datasheet/74650173R.pdf?src-supplier=Digikey; ComponentLink2URL: https://katalog.we-online.de/em/datasheet/74650173R.pdf?src-supplier=Digikey; ComponentLink2Description: https://katalog.we-online.de/em/datasheet/74650173R.pdf?src-supplier=Digikey
footprint 74650073 (REDCUBE THR with internal thread, M3x2.5mm, through)
pins: 1, 2, 3, 4

## 742792031
designator FB?
WE-CBF Ferrite Bead 0805 300Ohm 3000mA; Manufacturer: Wurth Electronics; Value: 0.36H; Tolerance: 25%; Current Rating: 3A; Impedance: 300R; Number of Lines: 1; DC Resistance (DCR): 50mR; Test Frequency: 200MHz; Supplier: Digi-Key; Supplier Part Number: 732-4638-1-ND; Manufacturer Part Number: 742792031; RoHS: Yes; Category: Ferrite Beads and Chips; Stock: 305302; Pricing: 1=0,23, 50=0,224, 100=0,206, 500=0,197, 1000=0,187, 2000=0,179 (USD); Mounting Technology: Surface Mount; Case/Package: SMD/SMT; Core Material: Ferrite; Case Code (Metric): 2012; Case Code (Imperial): 0805; Weight: 0.000194oz; Material: Ferrite; Min Operating Temperature: -55°C; Max Operating Temperature: 125°C; Package Quantity: 1; Packaging: Tape and Reel; Max Current Rating: 3A; Max DC Current: 3A; Termination: SMD/SMT; Series: WE-CBF; Length: 2mm; Width: 1.2mm; Height: 0.9mm; Depth: 1.2mm; RoHS Compliant: Yes; Reach SVHC Compliant: Unknown; ComponentLink1URL: https://datasheet.ciiva.com/1126/1468425-1126563.pdf?src-supplier=Element14; ComponentLink1Description: https://datasheet.ciiva.com/1126/1468425-1126563.pdf?src-supplier=Element14; ComponentLink2URL: https://datasheet.ciiva.com/11799/0900766b80d2dd7c-11799762.pdf?src-supplier=Rs; ComponentLink2Description: https://datasheet.ciiva.com/11799/0900766b80d2dd7c-11799762.pdf?src-supplier=Rs; ComponentLink3URL: https://datasheet.ciiva.com/29364/742792031-29364444.pdf?src-supplier=Digi-Key; ComponentLink3Description: https://datasheet.ciiva.com/29364/742792031-29364444.pdf?src-supplier=Digi-Key; ComponentLink4URL: https://datasheet.ciiva.com/14122/742792031-eng-tds-14122797.pdf?src-supplier=Distrelec; ComponentLink4Description: https://datasheet.ciiva.com/14122/742792031-eng-tds-14122797.pdf?src-supplier=Distrelec; ComponentLink5URL: https://datasheet.ciiva.com/48698/001086958-da-01-ml-we-cbf-smd-ferrit-742792031-de-en-48698519.pdf?src-supplier=Conrad; ComponentLink5Description: https://datasheet.ciiva.com/48698/001086958-da-01-ml-we-cbf-smd-ferrit-742792031-de-en-48698519.pdf?src-supplier=Conrad
footprint BEADC2012X105N
pins: 1, 2

## 744771212
designator L?  Inductance-Nom (L): 120uH  (hidden comment: 744771212)
General Purpose Inductor, 120uH, 20%, 1 Element, Ferrite-Core, SMD, 4747; Manufacturer: Wurth Electronics; DC Resistance (DCR): 170mR; Max Current Rating: 1.3A; Self Resonant Frequency: 4.8MHz; Inductor Application: RF INDUCTOR; Channels: 1; Shape/Size Description: RECTANGULAR PACKAGE; Shielding: Unshielded; Test Frequency: 1kHz; Supplier 1: Digikey; Manufacturer Part Number: 744771212; RoHS: Yes; Category: Fixed Inductors; Stock 1: 1717; Pricing 1: 1=2.26, 10=2.172, 50=1.961, 100=1.759, 250=1.61 (USD); Pins: 2; Core Material: Ferrite; Terminal Finish: Copper; Min Operating Temperature: -40°C; Max Operating Temperature: 85°C; Tolerance: 20%; JESD-609 Code: e1; Inductor Type: GENERAL PURPOSE INDUCTOR; Manufacturer Series: 744771212; Surface Mount: Yes; Terminal Placement: Dual Ended; Termination: One Surface; Reach SVHC Compliant: Yes; RoHS Compliant: Yes; ComponentLink1URL: https://datasheet.ciiva.com:443/pdfs/VipMasterIC/IC/MIDC/MIDC-S-A0007237670/MIDC-S-A0007087713-1.pdf?src-supplier=IHS+Markit; ComponentLink1Description: https://datasheet.ciiva.com:443/pdfs/VipMasterIC/IC/MIDC/MIDC-S-A0007237670/MIDC-S-A0007087713-1.pdf?src-supplier=IHS+Markit; ComponentLink2URL: https://datasheet.ciiva.com/6697/744771212-6697383.pdf?src-supplier=Digikey; ComponentLink2Description: https://datasheet.ciiva.com/6697/744771212-6697383.pdf?src-supplier=Digikey; ComponentLink3URL: https://datasheet.ciiva.com/13320/744771212-44144-13320794.pdf?src-supplier=Mouser; ComponentLink3Description: https://datasheet.ciiva.com/13320/744771212-44144-13320794.pdf?src-supplier=Mouser; ComponentLink4URL: https://datasheet.ciiva.com/23790/1645867-23790782.pdf?src-supplier=Newark; ComponentLink4Description: https://datasheet.ciiva.com/23790/1645867-23790782.pdf?src-supplier=Newark; ComponentLink5URL: https://datasheet.ciiva.com/30489/0900766b81281bab-30489822.pdf?src-supplier=Rs; ComponentLink5Description: https://datasheet.ciiva.com/30489/0900766b81281bab-30489822.pdf?src-supplier=Rs; ComponentLink6URL: https://datasheet.ciiva.com/7765/1736225-7765174.pdf?src-supplier=Element14; ComponentLink6Description: https://datasheet.ciiva.com/7765/1736225-7765174.pdf?src-supplier=Element14; ComponentLink7URL: https://datasheet.ciiva.com/26307/744771212-eng-tds-26307974.pdf?src-supplier=Distrelec; ComponentLink7Description: https://datasheet.ciiva.com/26307/744771212-eng-tds-26307974.pdf?src-supplier=Distrelec; Supplier Part Number 1: 732-4022-1-ND
footprint 744771212
pins: 1, 2

## 750312557
designator T?
Flyback Transformer We-fb LT8300; Manufacturer: Wurth Electronics Midcom; Current Rating: 450mA; Power Rating: 3W; Frequency: 70kHz; Value: 300uH; Supplier: Digikey; Supplier Part Number: 1297-1019-1-ND; Manufacturer Part Number: 750312557; RoHS: Yes; Category: Uncategorized; Stock: 150; Pricing: 1=4,17, 10=4,118, 50=3,86, 100=3,474 (USD); Mounting Technology: Surface Mount; Min Operating Temperature: -40°C; Max Operating Temperature: 125°C; Packaging: Tape and Reel; Package Quantity: 1; Termination: SMD/SMT; Max DC Current: 450mA; Series: WE-FB; Length: 13.36mm; Width: 10.16mm; Height: 12.7mm; Height - Seated (Max): 8.64mm; RoHS Compliant: Yes; ComponentLink1URL: https://datasheet.ciiva.com/24068/750312557-253798-24068018.pdf?src-supplier=Mouser; ComponentLink1Description: https://datasheet.ciiva.com/24068/750312557-253798-24068018.pdf?src-supplier=Mouser; ComponentLink2URL: https://datasheet.ciiva.com/18573/750312557-18573653.pdf?src-supplier=Digikey; ComponentLink2Description: https://datasheet.ciiva.com/18573/750312557-18573653.pdf?src-supplier=Digikey; ComponentLink3URL: https://datasheet.ciiva.com/18573/750312557-18573692.pdf?src-supplier=Digikey; ComponentLink3Description: https://datasheet.ciiva.com/18573/750312557-18573692.pdf?src-supplier=Digikey; ComponentLink4URL: https://datasheet.ciiva.com/18573/750312557-18573693.pdf?src-supplier=Digikey; ComponentLink4Description: https://datasheet.ciiva.com/18573/750312557-18573693.pdf?src-supplier=Digikey
footprint EP7_SMT_6PIN_(0353)
pins: 1, 2, 3, 4, 6

## 61300311121
designator J?
THT Vertical Pin Header WR-PHD, Pitch 2.54 mm, Single Row, 3 pins; Manufacturer: Wurth Electronics; Number of Positions: 3; Gender: Male; Contact Resistance: 20mR; Current Rating: 3A; Operating Supply Voltage: 250V; Pitch: 0.1inch; Supplier: Digi-Key; Supplier Part Number: 732-5316-ND; Manufacturer Part Number: 61300311121; RoHS: Yes; Category: Connectors; Stock: 182787; Pricing: 1=0,13, 10=0,113, 25=0,094, 50=0,079, 100=0,071, 1000=0,06875 (USD); Mounting Technology: Through Hole; Contact Plating: Gold; Contact Material: Copper; Color: Black; Min Operating Temperature: -40°C; Max Operating Temperature: 105°C; Number of Rows: 1; Packaging: Bulk; Termination: Solder; Number of Contacts: 3; Series: WR-PHD; Contact Type: Male Pin; Orientation: 5495OrientationType; Voltage Rating: 250V; Height: 8.94mm; Contact Mating Length: 0.236inch; Lead Free: Lead Free; RoHS Compliant: Yes; Reach SVHC Compliant: Unknown; ComponentLink1URL: http://www.farnell.com/cad/1737268.pdf?src-supplier=Element14; ComponentLink1Description: http://www.farnell.com/cad/1737268.pdf?src-supplier=Element14; ComponentLink2URL: https://datasheet.octopart.com/61300311121-W%C3%BCrth-Elektronik-datasheet-21154836.pdf?src-supplier=Element14; ComponentLink2Description: https://datasheet.octopart.com/61300311121-W%C3%BCrth-Elektronik-datasheet-21154836.pdf?src-supplier=Element14; ComponentLink3URL: https://katalog.we-online.de/em/datasheet/6130xx11121.pdf?src-supplier=Digi-Key; ComponentLink3Description: https://katalog.we-online.de/em/datasheet/6130xx11121.pdf?src-supplier=Digi-Key
footprint WURTH_61300311121
pins: 1, 2, 3

## 74437334068
designator L?  value 6.8uH  Current Rating: 2A  (hidden comment: 74437334068)
Fixed Ind 6.8UH 2A 150 Mohm SMD; Manufacturer: Wurth Electronics; Core Material: Ferrite; Saturation Current: 4.6A; Shielding: Shielded; DC Resistance (DCR): 150mR; Self Resonant Frequency: 20.5MHz; Test Frequency: 100kHz; Tolerance: 20%; Supplier: Digi-Key; Supplier Part Number: 732-6156-1-ND; Manufacturer Part Number: 74437334068; RoHS: Yes; Category: Fixed Inductors; Stock: 3097; Pricing: 1=2,55, 50=2,36, 100=2,145, 250=1,951, 500=1,773 (USD); Mounting Technology: Surface Mount; Case/Package: 5020; Pins: 2; Min Operating Temperature: -40°C; Max Operating Temperature: 125°C; Packaging: Tape and Reel; RMS Current (Irms): 2A; Inductance Tolerance: 20%; Termination: SMD/SMT; Max DC Current: 2A; Package Quantity: 3000; Series: WE-LHMI; Length: 0.205inch; Width: 5.2mm; Height: 1.8mm; Height - Seated (Max): 0.078inch; RoHS Compliant: Yes; Reach SVHC Compliant: Unknown; ComponentLink1URL: http://www.farnell.com/datasheets/1880901.pdf?src-supplier=Farnell; ComponentLink1Description: http://www.farnell.com/datasheets/1880901.pdf?src-supplier=Farnell; ComponentLink2URL: http://www.mouser.com/ds/2/445/74437334068-516434.pdf?src-supplier=Mouser; ComponentLink2Description: http://www.mouser.com/ds/2/445/74437334068-516434.pdf?src-supplier=Mouser; ComponentLink3URL: http://www.farnell.com/datasheets/1880901.pdf?src-supplier=Element14; ComponentLink3Description: http://www.farnell.com/datasheets/1880901.pdf?src-supplier=Element14; ComponentLink4URL: https://datasheet.octopart.com/74437334068-W%C3%BCrth-Elektronik-datasheet-37143636.pdf?src-supplier=Newark; ComponentLink4Description: https://datasheet.octopart.com/74437334068-W%C3%BCrth-Elektronik-datasheet-37143636.pdf?src-supplier=Newark; ComponentLink5URL: https://katalog.we-online.de/pbs/datasheet/74437334068.pdf?src-supplier=Digi-Key; ComponentLink5Description: https://katalog.we-online.de/pbs/datasheet/74437334068.pdf?src-supplier=Digi-Key
footprint INDPM5752X200N
pins: 1, 2

## 7443733448022
designator L?  value 2.2u  (hidden comment: 7443733448022)
Power Inductor, 2.2UH, Shielded, 5.5A Rohs Compliant: Yes; Manufacturer: Wurth Elektronik; Supplier: Farnell; Supplier Part Number: 4413357; Manufacturer Part Number: 7443733448022; Category: Fixed Inductors; Stock: 485; Pricing: 5=2,26, 50=2,06, 250=1,87, 500=1,72, 1000=1,57, 2000=1,55 (EUR)
footprint WE-LHMI_5020
pins: 1, 2

## ADP2303ARDZ-5.0-R7
designator Q?
Conv DC-DC 3V to 20V Step Down Single-Out 5V 3A 8-Pin SOIC N EP T/R; Manufacturer: Analog Devices; Supplier: Digi-Key; Supplier Part Number: 505-ADP2303ARDZ-5.0-R7CT-ND; Manufacturer Part Number: ADP2303ARDZ-5.0-R7; RoHS: Yes; Category: Voltage Regulators - Switching; Stock: 1453; Pricing: 1=4,1, 10=3,678, 25=3,4768, 100=3,0133, 250=2,8588, 500=2,5652 (USD); ComponentLink1URL: https://datasheet.ciiva.com/25626/0900766b810b59f9-25626508.pdf?src-supplier=Rs; ComponentLink1Description: https://datasheet.ciiva.com/25626/0900766b810b59f9-25626508.pdf?src-supplier=Rs; ComponentLink2URL: https://datasheet.ciiva.com/28436/1624274-28436554.pdf?src-supplier=Element14; ComponentLink2Description: https://datasheet.ciiva.com/28436/1624274-28436554.pdf?src-supplier=Element14; ComponentLink3URL: https://datasheet.ciiva.com/7994/1624274-7994911.pdf?src-supplier=Element14; ComponentLink3Description: https://datasheet.ciiva.com/7994/1624274-7994911.pdf?src-supplier=Element14; ComponentLink4URL: https://datasheet.ciiva.com/2024/adp2302-2303-2024382.pdf?src-supplier=Digi-Key; ComponentLink4Description: https://datasheet.ciiva.com/2024/adp2302-2303-2024382.pdf?src-supplier=Digi-Key; ComponentLink5URL: https://datasheet.ciiva.com/2024/adp2302-2303-2024383.pdf?src-supplier=Digi-Key; ComponentLink5Description: https://datasheet.ciiva.com/2024/adp2302-2303-2024383.pdf?src-supplier=Digi-Key; ComponentLink6URL: https://datasheet.ciiva.com/2024/adp2302-2303-2024384.pdf?src-supplier=Digi-Key; ComponentLink6Description: https://datasheet.ciiva.com/2024/adp2302-2303-2024384.pdf?src-supplier=Digi-Key; ComponentLink7URL: https://datasheet.ciiva.com/48696/001251161-da-01-en-ic-reg-buc-adp2303ardz-5-0-r7-soic-8-adi-48696838.pdf?src-supplier=Conrad; ComponentLink7Description: https://datasheet.ciiva.com/48696/001251161-da-01-en-ic-reg-buc-adp2303ardz-5-0-r7-soic-8-adi-48696838.pdf?src-supplier=Conrad
footprint SOIC127P600X175_HS-9N (SOIC, 8-Leads, Body 4,90x3,90mm, Pitch 1,27mm, Thermal Pad 2,29x2,29mm, IPC Medium Density)
pins: 1 BST, 2 VIN, 3 EN, 4 PG, 5 FB, 6 NC, 7 GND, 8 SW

## AGN20003
designator RLY?
Electromechanical Relay DPDT 1A 3VDC 64.2Ohm Through Hole; Manufacturer: Panasonic; Supplier: Digi-Key; Supplier Part Number: 255-2085-5-ND; Manufacturer Part Number: AGN20003; RoHS: Yes; Category: Signal Relays; Stock: 2045; Pricing: 1=3,85, 10=3,613, 25=3,212, 50=3,0512, 100=2,8906, 250=2,56944, 500=2,40884, 1000=2,24826 (USD); ComponentLink1URL: https://datasheet.ciiva.com/15185/getdatasheetpartid-102161-15185501.pdf?src-supplier=Verical; ComponentLink1Description: https://datasheet.ciiva.com/15185/getdatasheetpartid-102161-15185501.pdf?src-supplier=Verical
footprint RELAY_AGN20003
pins: 1 COIL1, 2 NC1, 3 COM1, 4 NO1, 5 NO2, 6 COM2, 7 NC2, 8 COIL2